# Altium schematic symbol library WR-CIRCM12.SchLib: 41 symbols
Pins are listed as number, name and electrical type; pins without a type are passive.

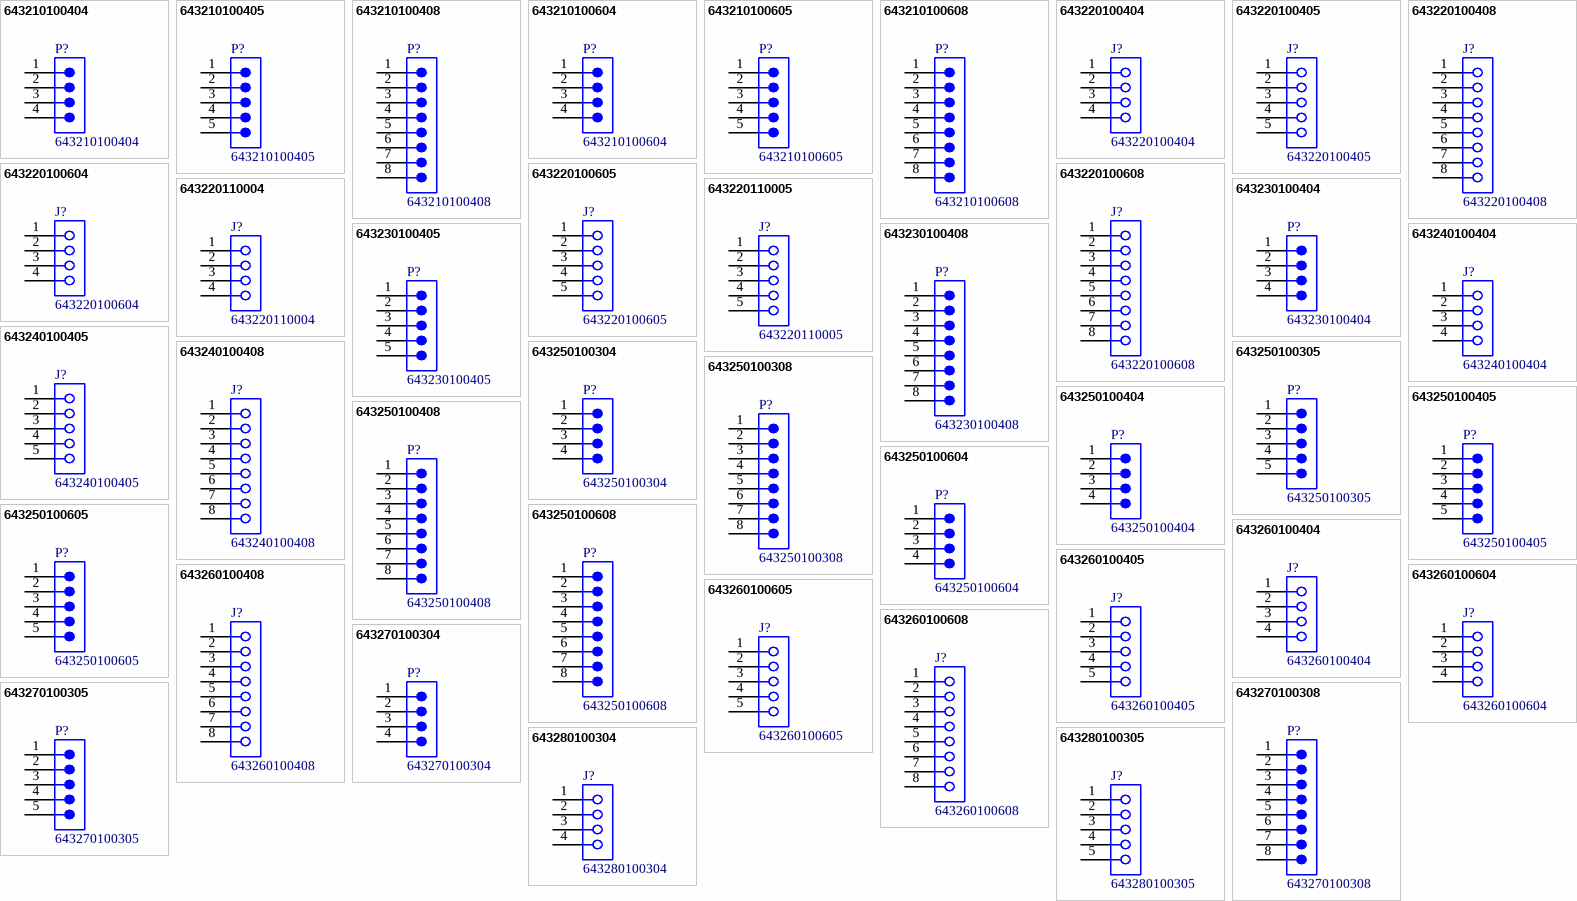
[diagram p0: symbols 643210100404 to 643280100305]

## 643210100404
designator P?
WR-CIRCM12 Screw Mating Panel Connector PCB Male Plastic M16, THT, 4p; Manufacturer: Wurth Elektronik; Insulation Resistance: 100MΩ; Polarity: 4; Rated Current: 5A; Working Voltage: 250V; Withstanding Voltage: 1400V AC; Manufacturer Part Number: 643210100404; Category: Circular Connector; Match Code: WR-CIRCM12; ComponentLink1Description: Website Link; ComponentLink1URL: https://www.we-online.com/redexpert/article/643210100404?ad; ComponentLink2Description: Datasheet Link; ComponentLink2URL: https://www.we-online.com/redexpert/spec/643210100404?ad; Mount: Through Hole; Min Operating Temperature: -40°C; Max Operating Temperature: 90°C; Packaging: Tray; Gender: Male; Orientation: Vertical
footprint 643210100404
pins: 1, 2, 3, 4

## 643210100405
designator P?
WR-CIRCM12 Screw Mating Panel Connector PCB Male Plastic M16, THT, 5p; Manufacturer: Wurth Elektronik; Insulation Resistance: 100MΩ; Polarity: 5; Rated Current: 5A; Working Voltage: 60V; Withstanding Voltage: 1000V AC; Manufacturer Part Number: 643210100405; Category: Circular Connector; Match Code: WR-CIRCM12; ComponentLink1Description: Website Link; ComponentLink1URL: https://www.we-online.com/redexpert/article/643210100405?ad; ComponentLink2Description: Datasheet Link; ComponentLink2URL: https://www.we-online.com/redexpert/spec/643210100405?ad; Mount: Through Hole; Min Operating Temperature: -40°C; Max Operating Temperature: 90°C; Packaging: Tray; Gender: Male; Orientation: Vertical
footprint 643210100405
pins: 1, 2, 3, 4, 5

## 643210100408
designator P?
WR-CIRCM12 Screw Mating Panel Connector PCB Male Plastic M16, THT, 8p; Manufacturer: Wurth Elektronik; Insulation Resistance: 100MΩ; Polarity: 8; Rated Current: 2A; Working Voltage: 30V; Withstanding Voltage: 650V AC; Manufacturer Part Number: 643210100408; Category: Circular Connector; Match Code: WR-CIRCM12; ComponentLink1Description: Website Link; ComponentLink1URL: https://www.we-online.com/redexpert/article/643210100408?ad; ComponentLink2Description: Datasheet Link; ComponentLink2URL: https://www.we-online.com/redexpert/spec/643210100408?ad; Mount: Through Hole; Min Operating Temperature: -40°C; Max Operating Temperature: 90°C; Packaging: Tray; Gender: Male; Orientation: Angled
footprint 643210100408
pins: 1, 2, 3, 4, 5, 6, 7, 8

## 643210100604
designator P?
WR-CIRCM12 Screw Mating Panel Connector PCB Male Plastic PG9, THT, 4p; Manufacturer: Wurth Elektronik; Insulation Resistance: 100MΩ; Polarity: 4; Rated Current: 5A; Working Voltage: 250V; Withstanding Voltage: 1400V AC; Manufacturer Part Number: 643210100604; Category: Circular Connector; Match Code: WR-CIRCM12; ComponentLink1Description: Website Link; ComponentLink1URL: https://www.we-online.com/redexpert/article/643210100604?ad; ComponentLink2Description: Datasheet Link; ComponentLink2URL: https://www.we-online.com/redexpert/spec/643210100604?ad; Mount: Through Hole; Min Operating Temperature: -40°C; Max Operating Temperature: 90°C; Packaging: Tray; Gender: Male; Orientation: Vertical
footprint 643210100604
pins: 1, 2, 3, 4

## 643210100605
designator P?
WR-CIRCM12 Screw Mating Panel Connector PCB Male Plastic PG9, THT, 5p; Manufacturer: Wurth Elektronik; Insulation Resistance: 100MΩ; Polarity: 5; Rated Current: 5A; Working Voltage: 60V; Withstanding Voltage: 1000V AC; Manufacturer Part Number: 643210100605; Category: Circular Connector; Match Code: WR-CIRCM12; ComponentLink1Description: Website Link; ComponentLink1URL: https://www.we-online.com/redexpert/article/643210100605?ad; ComponentLink2Description: Datasheet Link; ComponentLink2URL: https://www.we-online.com/redexpert/spec/643210100605?ad; Mount: Through Hole; Min Operating Temperature: -40°C; Max Operating Temperature: 90°C; Packaging: Tray; Gender: Male; Orientation: Vertical
footprint 643210100605
pins: 1, 2, 3, 4, 5

## 643210100608
designator P?
WR-CIRCM12 Screw Mating Panel Connector PCB Male Plastic PG9, THT, 8p; Manufacturer: Wurth Elektronik; Insulation Resistance: 100MΩ; Polarity: 8; Rated Current: 2A; Working Voltage: 30V; Withstanding Voltage: 650V AC; Manufacturer Part Number: 643210100608; Category: Circular Connector; Match Code: WR-CIRCM12; ComponentLink1Description: Website Link; ComponentLink1URL: https://www.we-online.com/redexpert/article/643210100608?ad; ComponentLink2Description: Datasheet Link; ComponentLink2URL: https://www.we-online.com/redexpert/spec/643210100608?ad; Mount: Through Hole; Min Operating Temperature: -40°C; Max Operating Temperature: 90°C; Packaging: Tray; Gender: Male; Orientation: Angled
footprint 643210100608
pins: 1, 2, 3, 4, 5, 6, 7, 8

## 643220100404
designator J?
WR-CIRCM12 Screw Mating Panel Connector PCB Female Plastic M16, THT, 4p; Manufacturer: Wurth Elektronik; Insulation Resistance: 100MΩ; Polarity: 4; Rated Current: 5A; Working Voltage: 250V; Withstanding Voltage: 1400V AC; Manufacturer Part Number: 643220100404; Category: Circular Connector; Match Code: WR-CIRCM12; ComponentLink1Description: Website Link; ComponentLink1URL: https://www.we-online.com/redexpert/article/643220100404?ad; ComponentLink2Description: Datasheet Link; ComponentLink2URL: https://www.we-online.com/redexpert/spec/643220100404?ad; Mount: Through Hole; Min Operating Temperature: -40°C; Max Operating Temperature: 90°C; Packaging: Tray; Gender: Female; Orientation: Vertical
footprint 643220100404
pins: 1, 2, 3, 4

## 643220100405
designator J?
WR-CIRCM12 Screw Mating Panel Connector PCB Female Plastic M16, THT, 5p; Manufacturer: Wurth Elektronik; Insulation Resistance: 100MΩ; Polarity: 5; Rated Current: 5A; Working Voltage: 60V; Withstanding Voltage: 1000V AC; Manufacturer Part Number: 643220100405; Category: Circular Connector; Match Code: WR-CIRCM12; ComponentLink1Description: Website Link; ComponentLink1URL: https://www.we-online.com/redexpert/article/643220100405?ad; ComponentLink2Description: Datasheet Link; ComponentLink2URL: https://www.we-online.com/redexpert/spec/643220100405?ad; Mount: Through Hole; Min Operating Temperature: -40°C; Max Operating Temperature: 90°C; Packaging: Tray; Gender: Female; Orientation: Vertical
footprint 643220100405
pins: 1, 2, 3, 4, 5

## 643220100408
designator J?
WR-CIRCM12 Screw Mating Panel Connector PCB Female Plastic M16, THT, 8p; Manufacturer: Wurth Elektronik; Insulation Resistance: 100MΩ; Polarity: 8; Rated Current: 2A; Working Voltage: 30V; Withstanding Voltage: 650V AC; Manufacturer Part Number: 643220100408; Category: Circular Connector; Match Code: WR-CIRCM12; ComponentLink1Description: Website Link; ComponentLink1URL: https://www.we-online.com/redexpert/article/643220100408?ad; ComponentLink2Description: Datasheet Link; ComponentLink2URL: https://www.we-online.com/redexpert/spec/643220100408?ad; Mount: Through Hole; Min Operating Temperature: -40°C; Max Operating Temperature: 90°C; Packaging: Tray; Gender: Female; Orientation: Angled
footprint 643220100408
pins: 1, 2, 3, 4, 5, 6, 7, 8

## 643220100604
designator J?
WR-CIRCM12 Screw Mating Panel Connector PCB Female Plastic PG9, THT, 4p; Manufacturer: Wurth Elektronik; Insulation Resistance: 100MΩ; Polarity: 4; Rated Current: 5A; Working Voltage: 250V; Withstanding Voltage: 1400V AC; Manufacturer Part Number: 643220100604; Category: Circular Connector; Match Code: WR-CIRCM12; ComponentLink1Description: Website Link; ComponentLink1URL: https://www.we-online.com/redexpert/article/643220100604?ad; ComponentLink2Description: Datasheet Link; ComponentLink2URL: https://www.we-online.com/redexpert/spec/643220100604?ad; Mount: Through Hole; Min Operating Temperature: -40°C; Max Operating Temperature: 90°C; Packaging: Tray; Gender: Female; Orientation: Vertical
footprint 643220100604
pins: 1, 2, 3, 4

## 643220100605
designator J?
WR-CIRCM12 Screw Mating Panel Connector PCB Female Plastic PG9, THT, 5p; Manufacturer: Wurth Elektronik; Insulation Resistance: 100MΩ; Polarity: 5; Rated Current: 5A; Working Voltage: 60V; Withstanding Voltage: 1000V AC; Manufacturer Part Number: 643220100605; Category: Circular Connector; Match Code: WR-CIRCM12; ComponentLink1Description: Website Link; ComponentLink1URL: https://www.we-online.com/redexpert/article/643220100605?ad; ComponentLink2Description: Datasheet Link; ComponentLink2URL: https://www.we-online.com/redexpert/spec/643220100605?ad; Mount: Through Hole; Min Operating Temperature: -40°C; Max Operating Temperature: 90°C; Packaging: Tray; Gender: Female; Orientation: Vertical
footprint 643220100605
pins: 1, 2, 3, 4, 5

## 643220100608
designator J?
WR-CIRCM12 Screw Mating Panel Connector PCB Female Plastic PG9, THT, 8p; Manufacturer: Wurth Elektronik; Insulation Resistance: 100MΩ; Polarity: 8; Rated Current: 2A; Working Voltage: 30V; Withstanding Voltage: 650V AC; Manufacturer Part Number: 643220100608; Category: Circular Connector; Match Code: WR-CIRCM12; ComponentLink1Description: Website Link; ComponentLink1URL: https://www.we-online.com/redexpert/article/643220100608?ad; ComponentLink2Description: Datasheet Link; ComponentLink2URL: https://www.we-online.com/redexpert/spec/643220100608?ad; Mount: Through Hole; Min Operating Temperature: -40°C; Max Operating Temperature: 90°C; Packaging: Tray; Gender: Female; Orientation: Angled
footprint 643220100608
pins: 1, 2, 3, 4, 5, 6, 7, 8

## 643220110004
designator J?
WR-CIRCM12 A Shieldingless socket Female, THT, 4p; Manufacturer: Wurth Elektronik; Insulation Resistance: 100MΩ; Polarity: 4; Rated Current: 4A; Working Voltage: 250V; Withstanding Voltage: 1400V AC; Manufacturer Part Number: 643220110004; Category: Circular Connector; Match Code: WR-CIRCM12; ComponentLink1Description: Website Link; ComponentLink1URL: https://www.we-online.com/redexpert/article/643220110004?ad; ComponentLink2Description: Datasheet Link; ComponentLink2URL: https://www.we-online.com/redexpert/spec/643220110004?ad; Mount: Through Hole; Min Operating Temperature: -40°C; Max Operating Temperature: 90°C; Packaging: Tray; Gender: Female; Orientation: Vertical
footprint 643220110004
pins: 1, 2, 3, 4

## 643220110005
designator J?
WR-CIRCM12 A Shieldingless socket Female, THT, 5p; Manufacturer: Wurth Elektronik; Insulation Resistance: 100MΩ; Polarity: 5; Rated Current: 4A; Working Voltage: 60V; Withstanding Voltage: 1000V AC; Manufacturer Part Number: 643220110005; Category: Circular Connector; Match Code: WR-CIRCM12; ComponentLink1Description: Website Link; ComponentLink1URL: https://www.we-online.com/redexpert/article/643220110005?ad; ComponentLink2Description: Datasheet Link; ComponentLink2URL: https://www.we-online.com/redexpert/spec/643220110005?ad; Mount: Through Hole; Min Operating Temperature: -40°C; Max Operating Temperature: 90°C; Packaging: Tray; Gender: Female; Orientation: Vertical
footprint 643220110005
pins: 1, 2, 3, 4, 5

## 643230100404
designator P?
WR-CIRCM12 Screw Mating Panel Connector PCB Male Angled 90° Plastic M16, THT, 4p; Manufacturer: Wurth Elektronik; Insulation Resistance: 100MΩ; Polarity: 4; Rated Current: 5A; Working Voltage: 250V; Withstanding Voltage: 1400V AC; Manufacturer Part Number: 643230100404; Category: Circular Connector; Match Code: WR-CIRCM12; ComponentLink1Description: Website Link; ComponentLink1URL: https://www.we-online.com/redexpert/article/643230100404?ad; ComponentLink2Description: Datasheet Link; ComponentLink2URL: https://www.we-online.com/redexpert/spec/643230100404?ad; Mount: Through Hole; Min Operating Temperature: -40°C; Max Operating Temperature: 90°C; Packaging: Tray; Gender: Male; Orientation: Angled
footprint 643230100404
pins: 1, 2, 3, 4

## 643230100405
designator P?
WR-CIRCM12 Screw Mating Panel Connector PCB Male Angled 90° Plastic M16, THT, 5p; Manufacturer: Wurth Elektronik; Insulation Resistance: 100MΩ; Polarity: 5; Rated Current: 5A; Working Voltage: 60V; Withstanding Voltage: 1000V AC; Manufacturer Part Number: 643230100405; Category: Circular Connector; Match Code: WR-CIRCM12; ComponentLink1Description: Website Link; ComponentLink1URL: https://www.we-online.com/redexpert/article/643230100405?ad; ComponentLink2Description: Datasheet Link; ComponentLink2URL: https://www.we-online.com/redexpert/spec/643230100405?ad; Mount: Through Hole; Min Operating Temperature: -40°C; Max Operating Temperature: 90°C; Packaging: Tray; Gender: Male; Orientation: Angled
footprint 643230100405
pins: 1, 2, 3, 4, 5

## 643230100408
designator P?
WR-CIRCM12 Screw Mating Panel Connector PCB Male Angled 90° Plastic M16, THT, 8p; Manufacturer: Wurth Elektronik; Insulation Resistance: 100MΩ; Polarity: 8; Rated Current: 2A; Working Voltage: 30V; Withstanding Voltage: 650V AC; Manufacturer Part Number: 643230100408; Category: Circular Connector; Match Code: WR-CIRCM12; ComponentLink1Description: Website Link; ComponentLink1URL: https://www.we-online.com/redexpert/article/643230100408?ad; ComponentLink2Description: Datasheet Link; ComponentLink2URL: https://www.we-online.com/redexpert/spec/643230100408?ad; Mount: Through Hole; Min Operating Temperature: -40°C; Max Operating Temperature: 90°C; Packaging: Tray; Gender: Male; Orientation: Angled
footprint 643230100408
pins: 1, 2, 3, 4, 5, 6, 7, 8

## 643240100404
designator J?
WR-CIRCM12 Screw Mating Panel Connector PCB Female Angled 90° Plastic M16, THT, 4p; Manufacturer: Wurth Elektronik; Insulation Resistance: 100MΩ; Polarity: 4; Rated Current: 5A; Working Voltage: 250V; Withstanding Voltage: 1400V AC; Manufacturer Part Number: 643240100404; Category: Circular Connector; Match Code: WR-CIRCM12; ComponentLink1Description: Website Link; ComponentLink1URL: https://www.we-online.com/redexpert/article/643240100404?ad; ComponentLink2Description: Datasheet Link; ComponentLink2URL: https://www.we-online.com/redexpert/spec/643240100404?ad; Mount: Through Hole; Min Operating Temperature: -40°C; Max Operating Temperature: 90°C; Packaging: Tray; Gender: Female; Orientation: Angled
footprint 643240100404
pins: 1, 2, 3, 4

## 643240100405
designator J?
WR-CIRCM12 Screw Mating Panel Connector PCB Female Angled 90° Plastic M16, THT, 5p; Manufacturer: Wurth Elektronik; Insulation Resistance: 100MΩ; Polarity: 5; Rated Current: 5A; Working Voltage: 60V; Withstanding Voltage: 1000V AC; Manufacturer Part Number: 643240100405; Category: Circular Connector; Match Code: WR-CIRCM12; ComponentLink1Description: Website Link; ComponentLink1URL: https://www.we-online.com/redexpert/article/643240100405?ad; ComponentLink2Description: Datasheet Link; ComponentLink2URL: https://www.we-online.com/redexpert/spec/643240100405?ad; Mount: Through Hole; Min Operating Temperature: -40°C; Max Operating Temperature: 90°C; Packaging: Tray; Gender: Female; Orientation: Angled
footprint 643240100405
pins: 1, 2, 3, 4, 5

## 643240100408
designator J?
WR-CIRCM12 Screw Mating Panel Connector PCB Female Angled 90° Plastic M16, THT, 8p; Manufacturer: Wurth Elektronik; Insulation Resistance: 100MΩ; Polarity: 8; Rated Current: 2A; Working Voltage: 30V; Withstanding Voltage: 650V AC; Manufacturer Part Number: 643240100408; Category: Circular Connector; Match Code: WR-CIRCM12; ComponentLink1Description: Website Link; ComponentLink1URL: https://www.we-online.com/redexpert/article/643240100408?ad; ComponentLink2Description: Datasheet Link; ComponentLink2URL: https://www.we-online.com/redexpert/spec/643240100408?ad; Mount: Through Hole; Min Operating Temperature: -40°C; Max Operating Temperature: 90°C; Packaging: Tray; Gender: Female; Orientation: Angled
footprint 643240100408
pins: 1, 2, 3, 4, 5, 6, 7, 8

## 643250100304
designator P?
WR-CIRCM12 Panel Connector PCB Metal M12, THT, 4p; Manufacturer: Wurth Elektronik; Gender: Male; Insulation Resistance: 100MΩ; Polarity: 4; Rated Current: 5A; Working Voltage: 250V; Withstanding Voltage: 1400V AC; Manufacturer Part Number: 643250100304; Category: Circular Connector; Match Code: WR-CIRCM12; ComponentLink1Description: Website Link; ComponentLink1URL: https://www.we-online.com/redexpert/article/643250100304?ad; ComponentLink2Description: Datasheet Link; ComponentLink2URL: https://www.we-online.com/redexpert/spec/643250100304?ad; Mount: Through Hole; Min Operating Temperature: -40°C; Max Operating Temperature: 90°C; Packaging: Tray; Orientation: Vertical
footprint 643250100304
pins: 1, 2, 3, 4

## 643250100305
designator P?
WR-CIRCM12 Panel Connector PCB Metal M12, THT, 5p; Manufacturer: Wurth Elektronik; Gender: Male; Insulation Resistance: 100MΩ; Polarity: 5; Rated Current: 5A; Working Voltage: 60V; Withstanding Voltage: 1000V AC; Manufacturer Part Number: 643250100305; Category: Circular Connector; Match Code: WR-CIRCM12; ComponentLink1Description: Website Link; ComponentLink1URL: https://www.we-online.com/redexpert/article/643250100305?ad; ComponentLink2Description: Datasheet Link; ComponentLink2URL: https://www.we-online.com/redexpert/spec/643250100305?ad; Mount: Through Hole; Min Operating Temperature: -40°C; Max Operating Temperature: 90°C; Packaging: Tray; Orientation: Vertical
footprint 643250100305
pins: 1, 2, 3, 4, 5

## 643250100308
designator P?
WR-CIRCM12 Panel Connector PCB Metal M12, THT, 8p; Manufacturer: Wurth Elektronik; Gender: Male; Insulation Resistance: 100MΩ; Polarity: 8; Rated Current: 2A; Working Voltage: 30V; Withstanding Voltage: 650V AC; Manufacturer Part Number: 643250100308; Category: Circular Connector; Match Code: WR-CIRCM12; ComponentLink1Description: Website Link; ComponentLink1URL: https://www.we-online.com/redexpert/article/643250100308?ad; ComponentLink2Description: Datasheet Link; ComponentLink2URL: https://www.we-online.com/redexpert/spec/643250100308?ad; Mount: Through Hole; Min Operating Temperature: -40°C; Max Operating Temperature: 90°C; Packaging: Tray; Orientation: Angled
footprint 643250100308
pins: 1, 2, 3, 4, 5, 6, 7, 8

## 643250100404
designator P?
WR-CIRCM12 Screw Mating Panel Male Metal Shell PG9 Panel Cut, THT, 4p; Manufacturer: Wurth Elektronik; Insulation Resistance: 100MΩ; Polarity: 4; Rated Current: 5A; Working Voltage: 250V; Withstanding Voltage: 1400V AC; Manufacturer Part Number: 643250100404; Category: Circular Connector; Match Code: WR-CIRCM12; ComponentLink1Description: Website Link; ComponentLink1URL: https://www.we-online.com/redexpert/article/643250100404?ad; ComponentLink2Description: Datasheet Link; ComponentLink2URL: https://www.we-online.com/redexpert/spec/643250100404?ad; Mount: Through Hole; Min Operating Temperature: -40°C; Max Operating Temperature: 90°C; Packaging: Tray; Gender: Male; Orientation: Vertical
footprint 643250100404
pins: 1, 2, 3, 4

## 643250100405
designator P?
WR-CIRCM12 Screw Mating Panel Male Metal Shell PG9 Panel Cut, THT, 5p; Manufacturer: Wurth Elektronik; Insulation Resistance: 100MΩ; Polarity: 5; Rated Current: 5A; Working Voltage: 60V; Withstanding Voltage: 1000V AC; Manufacturer Part Number: 643250100405; Category: Circular Connector; Match Code: WR-CIRCM12; ComponentLink1Description: Website Link; ComponentLink1URL: https://www.we-online.com/redexpert/article/643250100405?ad; ComponentLink2Description: Datasheet Link; ComponentLink2URL: https://www.we-online.com/redexpert/spec/643250100405?ad; Mount: Through Hole; Min Operating Temperature: -40°C; Max Operating Temperature: 90°C; Packaging: Tray; Gender: Male; Orientation: Vertical
footprint 643250100405
pins: 1, 2, 3, 4, 5

## 643250100408
designator P?
WR-CIRCM12 Screw Mating Panel Male Metal Shell PG9 Panel Cut, THT, 8p; Manufacturer: Wurth Elektronik; Insulation Resistance: 100MΩ; Polarity: 8; Rated Current: 2A; Working Voltage: 30V; Withstanding Voltage: 650V AC; Manufacturer Part Number: 643250100408; Category: Circular Connector; Match Code: WR-CIRCM12; ComponentLink1Description: Website Link; ComponentLink1URL: https://www.we-online.com/redexpert/article/643250100408?ad; ComponentLink2Description: Datasheet Link; ComponentLink2URL: https://www.we-online.com/redexpert/spec/643250100408?ad; Mount: Through Hole; Min Operating Temperature: -40°C; Max Operating Temperature: 90°C; Packaging: Tray; Gender: Male; Orientation: Vertical
footprint 643250100408
pins: 1, 2, 3, 4, 5, 6, 7, 8

## 643250100604
designator P?
WR-CIRCM12 Screw Mating Panel Connector PCB Metal PG9, THT, 4p; Manufacturer: Wurth Elektronik; Gender: Male; Insulation Resistance: 100MΩ; Polarity: 4; Rated Current: 5A; Working Voltage: 250V; Withstanding Voltage: 1400V AC; Manufacturer Part Number: 643250100604; Category: Circular Connector; Match Code: WR-CIRCM12; ComponentLink1Description: Website Link; ComponentLink1URL: https://www.we-online.com/redexpert/article/643250100604?ad; ComponentLink2Description: Datasheet Link; ComponentLink2URL: https://www.we-online.com/redexpert/spec/643250100604?ad; Mount: Through Hole; Min Operating Temperature: -40°C; Max Operating Temperature: 90°C; Packaging: Tray; Orientation: Vertical
footprint 643250100604
pins: 1, 2, 3, 4

## 643250100605
designator P?
WR-CIRCM12 Screw Mating Panel Connector PCB Metal PG9, THT, 5p; Manufacturer: Wurth Elektronik; Gender: Male; Insulation Resistance: 100MΩ; Polarity: 5; Rated Current: 5A; Working Voltage: 60V; Withstanding Voltage: 1000V AC; Manufacturer Part Number: 643250100605; Category: Circular Connector; Match Code: WR-CIRCM12; ComponentLink1Description: Website Link; ComponentLink1URL: https://www.we-online.com/redexpert/article/643250100605?ad; ComponentLink2Description: Datasheet Link; ComponentLink2URL: https://www.we-online.com/redexpert/spec/643250100605?ad; Mount: Through Hole; Min Operating Temperature: -40°C; Max Operating Temperature: 90°C; Packaging: Tray; Orientation: Vertical
footprint 643250100605
pins: 1, 2, 3, 4, 5

## 643250100608
designator P?
WR-CIRCM12 Screw Mating Panel Connector PCB Metal PG9, THT, 8p; Manufacturer: Wurth Elektronik; Gender: Male; Insulation Resistance: 100MΩ; Polarity: 8; Rated Current: 2A; Working Voltage: 30V; Withstanding Voltage: 650V AC; Manufacturer Part Number: 643250100608; Category: Circular Connector; Match Code: WR-CIRCM12; ComponentLink1Description: Website Link; ComponentLink1URL: https://www.we-online.com/redexpert/article/643250100608?ad; ComponentLink2Description: Datasheet Link; ComponentLink2URL: https://www.we-online.com/redexpert/spec/643250100608?ad; Mount: Through Hole; Min Operating Temperature: -40°C; Max Operating Temperature: 90°C; Packaging: Tray; Orientation: Angled
footprint 643250100608
pins: 1, 2, 3, 4, 5, 6, 7, 8

## 643260100404
designator J?
WR-CIRCM12 Screw Mating Panel Female Metal Shell M16 Panel Cut, THT, 4p; Manufacturer: Wurth Elektronik; Insulation Resistance: 100MΩ; Polarity: 4; Rated Current: 5A; Working Voltage: 250V; Withstanding Voltage: 1400V AC; Manufacturer Part Number: 643260100404; Category: Circular Connector; Match Code: WR-CIRCM12; ComponentLink1Description: Website Link; ComponentLink1URL: https://www.we-online.com/redexpert/article/643260100404?ad; ComponentLink2Description: Datasheet Link; ComponentLink2URL: https://www.we-online.com/redexpert/spec/643260100404?ad; Mount: Through Hole; Min Operating Temperature: -40°C; Max Operating Temperature: 90°C; Packaging: Tray; Gender: Female; Orientation: Vertical
footprint 643260100404
pins: 1, 2, 3, 4

## 643260100405
designator J?
WR-CIRCM12 Screw Mating Panel Female Metal Shell M16 Panel Cut, THT, 5p; Manufacturer: Wurth Elektronik; Insulation Resistance: 100MΩ; Polarity: 5; Rated Current: 5A; Working Voltage: 60V; Withstanding Voltage: 1000V AC; Manufacturer Part Number: 643260100405; Category: Circular Connector; Match Code: WR-CIRCM12; ComponentLink1Description: Website Link; ComponentLink1URL: https://www.we-online.com/redexpert/article/643260100405?ad; ComponentLink2Description: Datasheet Link; ComponentLink2URL: https://www.we-online.com/redexpert/spec/643260100405?ad; Mount: Through Hole; Min Operating Temperature: -40°C; Max Operating Temperature: 90°C; Packaging: Tray; Gender: Female; Orientation: Vertical
footprint 643260100405
pins: 1, 2, 3, 4, 5

## 643260100408
designator J?
WR-CIRCM12 Screw Mating Panel Female Metal Shell M16 Panel Cut, THT, 8p; Manufacturer: Wurth Elektronik; Insulation Resistance: 100MΩ; Polarity: 8; Rated Current: 2A; Working Voltage: 30V; Withstanding Voltage: 650V AC; Manufacturer Part Number: 643260100408; Category: Circular Connector; Match Code: WR-CIRCM12; ComponentLink1Description: Website Link; ComponentLink1URL: https://www.we-online.com/redexpert/article/643260100408?ad; ComponentLink2Description: Datasheet Link; ComponentLink2URL: https://www.we-online.com/redexpert/spec/643260100408?ad; Mount: Through Hole; Min Operating Temperature: -40°C; Max Operating Temperature: 90°C; Packaging: Tray; Gender: Female; Orientation: Vertical
footprint 643260100408
pins: 1, 2, 3, 4, 5, 6, 7, 8

## 643260100604
designator J?
WR-CIRCM12 Screw Mating Panel Connector Female Metal PG9, THT, 4p; Manufacturer: Wurth Elektronik; Insulation Resistance: 100MΩ; Polarity: 4; Rated Current: 5A; Working Voltage: 250V; Withstanding Voltage: 1400V AC; Manufacturer Part Number: 643260100604; Category: Circular Connector; Match Code: WR-CIRCM12; ComponentLink1Description: Website Link; ComponentLink1URL: https://www.we-online.com/redexpert/article/643260100604?ad; ComponentLink2Description: Datasheet Link; ComponentLink2URL: https://www.we-online.com/redexpert/spec/643260100604?ad; Mount: Through Hole; Min Operating Temperature: -40°C; Max Operating Temperature: 90°C; Packaging: Tray; Gender: Female; Orientation: Vertical
footprint 643260100604
pins: 1, 2, 3, 4

## 643260100605
designator J?
WR-CIRCM12 Screw Mating Panel Connector Female Metal PG9, THT, 5p; Manufacturer: Wurth Elektronik; Insulation Resistance: 100MΩ; Polarity: 5; Rated Current: 5A; Working Voltage: 60V; Withstanding Voltage: 1000V AC; Manufacturer Part Number: 643260100605; Category: Circular Connector; Match Code: WR-CIRCM12; ComponentLink1Description: Website Link; ComponentLink1URL: https://www.we-online.com/redexpert/article/643260100605?ad; ComponentLink2Description: Datasheet Link; ComponentLink2URL: https://www.we-online.com/redexpert/spec/643260100605?ad; Mount: Through Hole; Min Operating Temperature: -40°C; Max Operating Temperature: 90°C; Packaging: Tray; Gender: Female; Orientation: Vertical
footprint 643260100605
pins: 1, 2, 3, 4, 5

## 643260100608
designator J?
WR-CIRCM12 Screw Mating Panel Connector Female Metal PG9, THT, 8p; Manufacturer: Wurth Elektronik; Insulation Resistance: 100MΩ; Polarity: 8; Rated Current: 2A; Working Voltage: 30V; Withstanding Voltage: 650V AC; Manufacturer Part Number: 643260100608; Category: Circular Connector; Match Code: WR-CIRCM12; ComponentLink1Description: Website Link; ComponentLink1URL: https://www.we-online.com/redexpert/article/643260100608?ad; ComponentLink2Description: Datasheet Link; ComponentLink2URL: https://www.we-online.com/redexpert/spec/643260100608?ad; Mount: Through Hole; Min Operating Temperature: -40°C; Max Operating Temperature: 90°C; Packaging: Tray; Gender: Female; Orientation: Vertical
footprint 643260100608
pins: 1, 2, 3, 4, 5, 6, 7, 8

## 643270100304
designator P?
WR-CIRCM12 Screw Mating Panel Connector PCB Angled 90° Metal M12, THT, 4p; Manufacturer: Wurth Elektronik; Gender: Male; Insulation Resistance: 100MΩ; Polarity: 4; Rated Current: 5A; Working Voltage: 250V; Withstanding Voltage: 1400V AC; Manufacturer Part Number: 643270100304; Category: Circular Connector; Match Code: WR-CIRCM12; ComponentLink1Description: Website Link; ComponentLink1URL: https://www.we-online.com/redexpert/article/643270100304?ad; ComponentLink2Description: Datasheet Link; ComponentLink2URL: https://www.we-online.com/redexpert/spec/643270100304?ad; Mount: Through Hole; Min Operating Temperature: -40°C; Max Operating Temperature: 90°C; Packaging: Tray; Orientation: Angled
footprint 643270100304
pins: 1, 2, 3, 4

## 643270100305
designator P?
WR-CIRCM12 Screw Mating Panel Connector PCB Angled 90° Metal M12, THT, 5p; Manufacturer: Wurth Elektronik; Gender: Male; Insulation Resistance: 100MΩ; Polarity: 5; Rated Current: 5A; Working Voltage: 60V; Withstanding Voltage: 1000V AC; Manufacturer Part Number: 643270100305; Category: Circular Connector; Match Code: WR-CIRCM12; ComponentLink1Description: Website Link; ComponentLink1URL: https://www.we-online.com/redexpert/article/643270100305?ad; ComponentLink2Description: Datasheet Link; ComponentLink2URL: https://www.we-online.com/redexpert/spec/643270100305?ad; Mount: Through Hole; Min Operating Temperature: -40°C; Max Operating Temperature: 90°C; Packaging: Tray; Orientation: Angled
footprint 643270100305
pins: 1, 2, 3, 4, 5

## 643270100308
designator P?
WR-CIRCM12 Screw Mating Panel Connector PCB Angled 90° Metal M12, THT, 8p; Manufacturer: Wurth Elektronik; Gender: Male; Insulation Resistance: 100MΩ; Polarity: 8; Rated Current: 2A; Working Voltage: 30V; Withstanding Voltage: 650V AC; Manufacturer Part Number: 643270100308; Category: Circular Connector; Match Code: WR-CIRCM12; ComponentLink1Description: Website Link; ComponentLink1URL: https://www.we-online.com/redexpert/article/643270100308?ad; ComponentLink2Description: Datasheet Link; ComponentLink2URL: https://www.we-online.com/redexpert/spec/643270100308?ad; Mount: Through Hole; Min Operating Temperature: -40°C; Max Operating Temperature: 90°C; Packaging: Tray; Orientation: Angled
footprint 643270100308
pins: 1, 2, 3, 4, 5, 6, 7, 8

## 643280100304
designator J?
WR-CIRCM12 Screw Mating Panel Connector Angled 90° Female Metal M12, THT, 4p; Manufacturer: Wurth Elektronik; Insulation Resistance: 100MΩ; Polarity: 4; Rated Current: 5A; Working Voltage: 250V; Withstanding Voltage: 1400V AC; Manufacturer Part Number: 643280100304; Category: Circular Connector; Match Code: WR-CIRCM12; ComponentLink1Description: Website Link; ComponentLink1URL: https://www.we-online.com/redexpert/article/643280100304?ad; ComponentLink2Description: Datasheet Link; ComponentLink2URL: https://www.we-online.com/redexpert/spec/643280100304?ad; Mount: Through Hole; Min Operating Temperature: -40°C; Max Operating Temperature: 90°C; Packaging: Tray; Gender: Female; Orientation: Angled
footprint 643280100304
pins: 1, 2, 3, 4

## 643280100305
designator J?
WR-CIRCM12 Screw Mating Panel Connector Angled 90° Female Metal M12, THT, 5p; Manufacturer: Wurth Elektronik; Insulation Resistance: 100MΩ; Polarity: 5; Rated Current: 5A; Working Voltage: 60V; Withstanding Voltage: 1000V AC; Manufacturer Part Number: 643280100305; Category: Circular Connector; Match Code: WR-CIRCM12; ComponentLink1Description: Website Link; ComponentLink1URL: https://www.we-online.com/redexpert/article/643280100305?ad; ComponentLink2Description: Datasheet Link; ComponentLink2URL: https://www.we-online.com/redexpert/spec/643280100305?ad; Mount: Through Hole; Min Operating Temperature: -40°C; Max Operating Temperature: 90°C; Packaging: Tray; Gender: Female; Orientation: Angled
footprint 643280100305
pins: 1, 2, 3, 4, 5

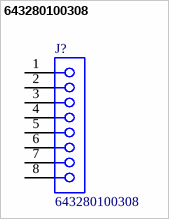
[diagram p1: symbol 643280100308]

## 643280100308
designator J?
WR-CIRCM12 Screw Mating Panel Connector Angled 90° Female Metal M12, THT, 8p; Manufacturer: Wurth Elektronik; Insulation Resistance: 100MΩ; Polarity: 8; Rated Current: 2A; Working Voltage: 30V; Withstanding Voltage: 650V AC; Manufacturer Part Number: 643280100308; Category: Circular Connector; Match Code: WR-CIRCM12; ComponentLink1Description: Website Link; ComponentLink1URL: https://www.we-online.com/redexpert/article/643280100308?ad; ComponentLink2Description: Datasheet Link; ComponentLink2URL: https://www.we-online.com/redexpert/spec/643280100308?ad; Mount: Through Hole; Min Operating Temperature: -40°C; Max Operating Temperature: 90°C; Packaging: Tray; Gender: Female; Orientation: Angled
footprint 643280100308
pins: 1, 2, 3, 4, 5, 6, 7, 8